# Altium integrated library LTC4056.IntLib: 1 symbol
Pins are listed as number, name and electrical type; pins without a type are passive.

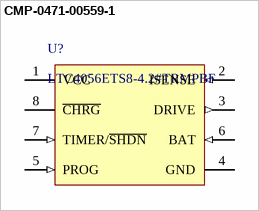
[diagram p0: symbol CMP-0471-00559-1]

## CMP-0471-00559-1
designator U?, comment LTC4056ETS8-4.2#TRMPBF
No Charging Interruption Due to Input Voltage Fluctuation, 4.5 to 6.5 V Vin, 8-pin SOT23 (TS8-8), -40 to 85 degC, Pb-Free, Mini Tape and Reel; Manufacturer: Linear Technology; Max Charge Current(A): 0.7; Vin Max(V): 6.5; Battery Chemistry: Li-Ion, Li-Polymer; Number of Cells: 1; Charge Termination: On-board timer; Float Voltage: 4.2 V; Type of Charger: Linear; Vin Min(V): 4.5; Mounting Technology: Surface Mount; PackageVersion: Rev. A, 08/2010; ComponentLink3Description: Package Specification; Packing: Mini Tape and Reel; PackageReference: TS8-8; PartNumber: LTC4056ETS8-4.2#TRMPBF; ComponentLink2URL: http://cds.linear.com/docs/en/datasheet/405642f.pdf; PackageDescription: 8-Pin Plastic TSOT-23, Body 2.9 x 1.63 mm, Pitch 0.65 mm; ComponentLink2Description: Datasheet; Code_JEDEC: MO-193; ComponentLink3URL: http://cds.linear.com/docs/en/packaging/SOT_8_05-08-1637.pdf; ComponentLink1Description: Manufacturer URL; ComponentLink1URL: http://www.linear.com/; RoHS: TRUE
footprint LT-TS8-8-TSOT-23_V (SOT23, 8-Leads, Body 2.9x1.75mm, Pitch 0.65mm)
pins: 1 VCC (power) "Positive Input Supply Voltage. This pin supplies power to the internal control circuitry and external PNP transistor through the internal current sense resistor. This pin should be bypassed to ground with a capacitor in the (See Datasheet)", 2 ISENSE (in) "Sense Node for Charge Current. Current from VCC passes through the internal current sense resistor and out of the ISENSE pin to supply current to the emitter of the external PNP transistor. The collector of the PNP provides (See Datasheet)", 3 DRIVE (out) "Base Drive Output for the External PNP Pass Transistor. Provides a controlled sink current to drive the base of the PNP. This pin has current limiting protection.", 4 GND (power) "Ground. Provides a reference for the internal voltage regulator and a return for all internal circuits. When in the constant voltage mode, the LTC4056 will precisely regulate the voltage between the BAT and GND pins. The (See Datasheet)", 5 PROG (in) "Charge Current Programming Pin. Provides a virtual reference voltage of 1V for an external nesistor (RPROG) connected between this pin and ground to program the battery charge current. In constant current mode the typical (See Datasheet)", 6 BAT (in) "Battery Voltage Sense Input. A precision internal resistor divider sets the final float voltage on this pin. This divider is disconnected in the manual shutdown or sleep mode. No bypass capacitance is needed on this pin for (See Datasheet)", 7 TIMER/~{SHDN} (in) "Programmable Charge Termination Timer and Shutdown Input. Pulling this pin below the shutdown threshold voltage will shut down the charger reducing the supply current to approximately 40uA and the battery drain current to (See Datasheet)", 8 ~{CHRG} (hiz) "Open-Drain Charge Status Output. When the battery is being charged, the C\H\R\G\ pin is pulled low by an internal N-channel MOSFET. When the timer has timed out (terminating the charge cycle) or when the LTC4056 is in (See Datasheet)"